# EAGLE library part DPDT_DEV (library elcanoParts)
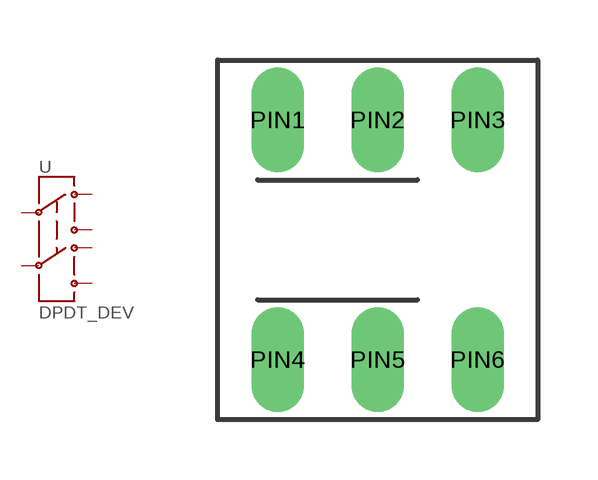
[diagram p0: symbol with the pads of NEWSWITCH2_PAC; footprint NEWSWITCH2_PAC]

Designator prefix -

## DPDT_DEV6X5MM_PAC  [NEWSWITCH2_PAC]
PIN1  1
PIN2  2
PIN3  3
PIN4  4
PIN5  5
PIN6  6

## Footprint NEWSWITCH2_PAC (pad centres in mm)
drill 0.8 long: PIN1 -2.5,3; PIN2 0,3; PIN3 2.5,3; PIN4 -2.5,-3; PIN5 0,-3; PIN6 2.5,-3